# Altium footprint library TDSON-8.PcbLib: 1 footprints
Each footprint in its own frame and in the unit in brackets; x right, y up, seen from the top. Pads: shape width x height; smd on the part's side, far side on the other; paste and mask are expansions set on the pad; w line width, h text height; cw(c..) or ccw(c..) is an arc to the next point about the centre after c.
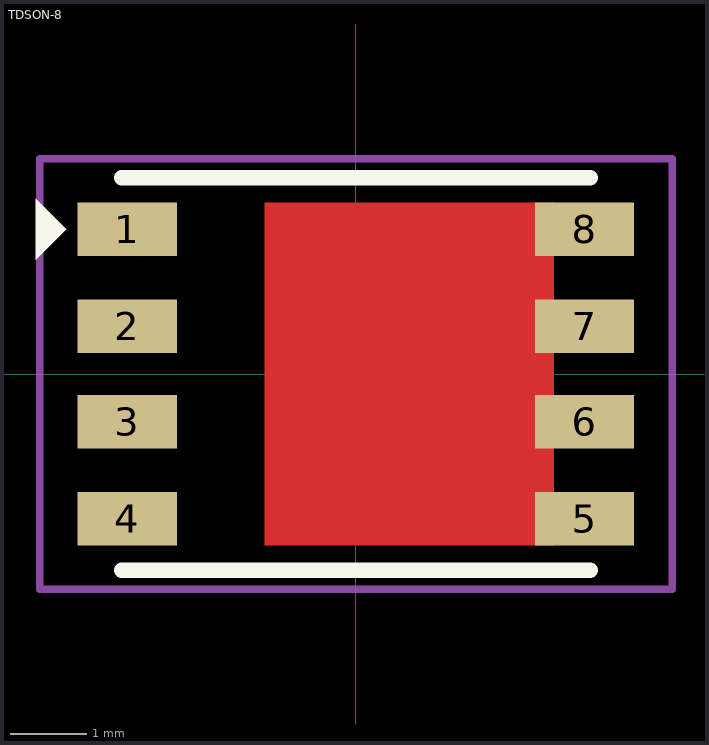
[diagram p0: the footprint, top view; thin cyan lines are the x and y axes]

## TDSON-8 [mm]
pads (8):
  rect 1.3x0.7 smd: 1(-3,1.9) 2(-3,0.625) 3(-3,-0.625) 4(-3,-1.9) 5(3,-1.9) 6(3,-0.625) 7(3,0.625) 8(3,1.9)
Top Layer:
  rectangle: -1.2,-2.25 2.6,2.25
Top Overlay:
  region: -4.2,1.5 -4.2,2.3 -3.8,1.9
  lines w0.2: -3.075,-2.575 3.075,-2.575 ; -3.075,2.575 3.075,2.575
Top Courtyard:
  lines w0.1: -4.15,-2.825 -4.15,2.825 4.15,2.825 4.15,-2.825 -3.075,-2.825 -4.15,-2.825
3D body "step_temp.STEP": height 1.12, standoff 0, extent -3.073,-2.578 3.073,2.578